# Altium schematic symbol library TPS82140.SchLib: 1 symbol
Pins are listed as number, name and electrical type; pins without a type are passive.

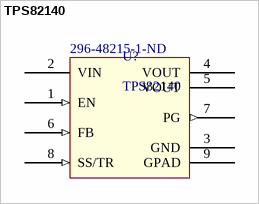
[diagram p0: symbol TPS82140]

## TPS82140
designator U?  Supplier Part Number 1: 296-48215-1-ND
17V input 2A step-down converter MicroSiP module with integrated inductor; ComponentLink1Description: Datasheet; ComponentLink1URL: http://www.ti.com/lit/ds/symlink/tps82140.pdf; Supplier 1: Digi-Key
footprint TPS82140-8microSiP (DC/DC converter 0.9~6V 2A output 3~17V input)
pins: 1 EN (in), 2 VIN (power), 3 GND, 4 VOUT (power), 5 VOUT (power), 6 FB (in), 7 PG (out), 8 SS/TR (in), 9 GPAD